# Altium schematic symbol library Potentiometer.SchLib: 1 symbol
Pins are listed as number, name and electrical type; pins without a type are passive.

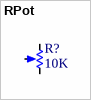
[diagram p0: symbol RPot]

## RPot
designator R?  value 10K  (hidden comment: *)
Potentiometer; Manufacturer: Copal Electronics Inc; Part No.: SM-42TA103; Vendor: Digi-Key; Price Est.: $2.66
simulation model POT (Potentiometer)
footprint TRIMPOT PVG5H/SM4 (TRIMPOT Murata/Copal SMT PVG5H/SM4 (SM-4XA/B))
pins: 1 TOP, 2 BOT, 3 TAP
1 alternate drawing of the same symbol